# EAGLE library part CDCLVC1106 (library texas)
High-Performance Clock Buffer 3.3 V and 2.5 V LVCMOS
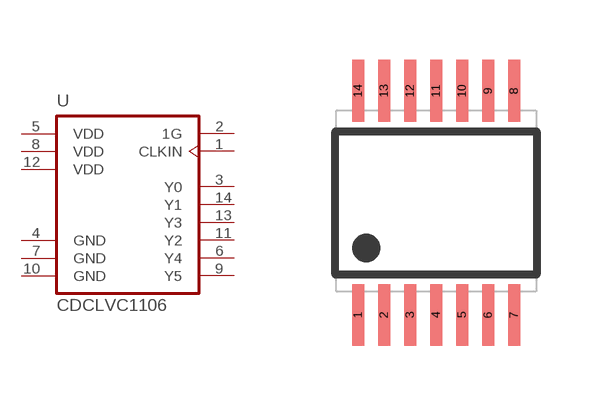
[diagram p43: symbol with the pads of TSSOP14; footprint TSSOP14]

Designator prefix U

## CDCLVC1106PW  [TSSOP14]
1  CLKIN  in
2  1G  in
3  Y0  out
4  GND  pwr
5  VDD  pwr
6  Y4  out
7  GND  pwr
8  VDD  pwr
9  Y5  out
10  GND  pwr
11  Y2  out
12  VDD  pwr
13  Y3  out
14  Y1  out

## Footprint TSSOP14 (pad centres in mm)
Thin Shrink Small Outline Plastic 14
smd 0.3 x 1.55: 1 -1.95,-2.8; 2 -1.3,-2.8; 3 -0.65,-2.8; 4 0,-2.8; 5 0.65,-2.8; 6 1.3,-2.8; 7 1.95,-2.8; 8 1.95,2.8; 9 1.3,2.8; 10 0.65,2.8; 11 0,2.8; 12 -0.65,2.8; 13 -1.3,2.8; 14 -1.95,2.8